# EAGLE library part SDP816-125PA (library SDP816-125Pa)
Sensirion SDP816-125PA, Differential Pressure Sensor +125Pa 0.1 0.9 V Output, 4-Pin Source: Datasheet <http://uk.rs-online.com/web/p/products/1691851>
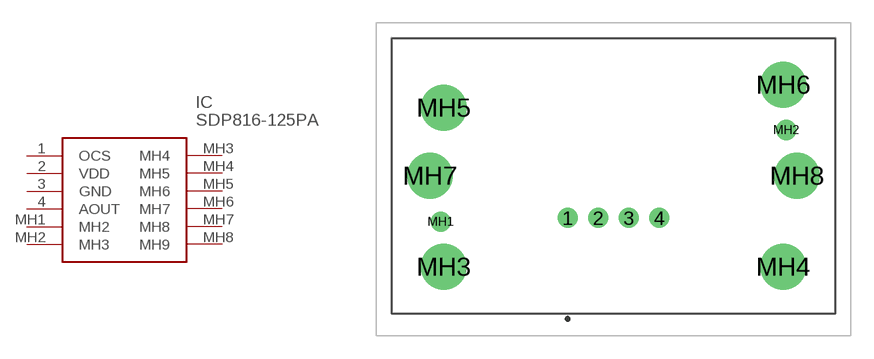
[diagram p0: symbol with the pads of SDP816125Pa; footprint SDP816125Pa]

Designator prefix IC

## SDP816-125PA (Description: Sensirion SDP816-125PA, Differential Pressure Sensor +125Pa 0.1 0.9 V Output, 4-Pin; Height: 10.5mm; Manufacturer_Name: Sensirion; Manufacturer_Part_Number: SDP816-125Pa; RS_Part_Number: 1691851; RS_Price-Stock: http://uk.rs-online.com/web/p/products/1691851)  [SDP816125Pa]
1  OCS
2  VDD
3  GND
4  AOUT
MH1  MH2
MH2  MH3
MH3  MH4
MH4  MH5
MH5  MH6
MH6  MH7
MH7  MH8
MH8  MH9

## Footprint SDP816125Pa (pad centres in mm)
SDP816-125Pa-1
drill 0.8 pad 1.3: 1 0,0; 2 2,0; 3 4,0; 4 6,0; MH1 -8.3,-0.25; MH2 14.3,5.75
drill 2 pad 3: MH3 -8.1,-3.2; MH4 14.1,-3.2; MH5 -8.1,7.2; MH6 14.1,8.7; MH7 -9,2.75; MH8 15,2.75